# EAGLE library part BOB_LM3S3836_OVAL (library CEDTv60)
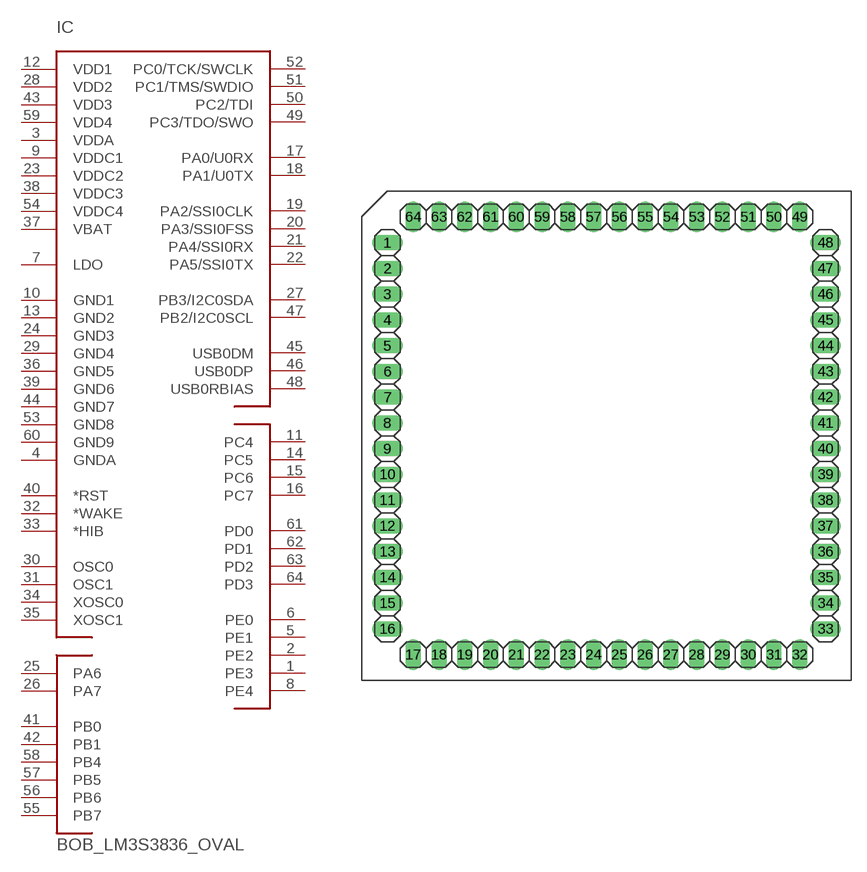
[diagram p51: symbol with the pads of BOB_LQFP64_OVAL; footprint BOB_LQFP64_OVAL]

Designator prefix IC

## BOB_LM3S3836_OVAL  [BOB_LQFP64_OVAL]
1  PE3  pas
2  PE2  pas
3  VDDA  pas
4  GNDA  pas
5  PE1  pas
6  PE0  pas
7  LDO  pas
8  PE4  pas
9  VDDC1  pas
10  GND1  pas
11  PC4  pas
12  VDD1  pas
13  GND2  pas
14  PC5  pas
15  PC6  pas
16  PC7  pas
17  PA0/U0RX  pas
18  PA1/U0TX  pas
19  PA2/SSI0CLK  pas
20  PA3/SSI0FSS  pas
21  PA4/SSI0RX  pas
22  PA5/SSI0TX  pas
23  VDDC2  pas
24  GND3  pas
25  PA6  pas
26  PA7  pas
27  PB3/I2C0SDA  pas
28  VDD2  pas
29  GND4  pas
30  OSC0  pas
31  OSC1  pas
32  *WAKE  pas
33  *HIB  pas
34  XOSC0  pas
35  XOSC1  pas
36  GND5  pas
37  VBAT  pas
38  VDDC3  pas
39  GND6  pas
40  *RST  pas
41  PB0  pas
42  PB1  pas
43  VDD3  pas
44  GND7  pas
45  USB0DM  pas
46  USB0DP  pas
47  PB2/I2C0SCL  pas
48  USB0RBIAS  pas
49  PC3/TDO/SWO  pas
50  PC2/TDI  pas
51  PC1/TMS/SWDIO  pas
52  PC0/TCK/SWCLK  pas
53  GND8  pas
54  VDDC4  pas
55  PB7  pas
56  PB6  pas
57  PB5  pas
58  PB4  pas
59  VDD4  pas
60  GND9  pas
61  PD0  pas
62  PD1  pas
63  PD2  pas
64  PD3  pas

## Footprint BOB_LQFP64_OVAL (pad centres in mm)
drill 1.016 long: 1 -21.59,19.05; 2 -21.59,16.51; 3 -21.59,13.97; 4 -21.59,11.43; 5 -21.59,8.89; 6 -21.59,6.35; 7 -21.59,3.81; 8 -21.59,1.27; 9 -21.59,-1.27; 10 -21.59,-3.81; 11 -21.59,-6.35; 12 -21.59,-8.89; 13 -21.59,-11.43; 14 -21.59,-13.97; 15 -21.59,-16.51; 16 -21.59,-19.05; 17 -19.05,-21.59; 18 -16.51,-21.59; 19 -13.97,-21.59; 20 -11.43,-21.59; 21 -8.89,-21.59; 22 -6.35,-21.59; 23 -3.81,-21.59; 24 -1.27,-21.59; 25 1.27,-21.59; 26 3.81,-21.59; 27 6.35,-21.59; 28 8.89,-21.59; 29 11.43,-21.59; 30 13.97,-21.59; 31 16.51,-21.59; 32 19.05,-21.59; 33 21.59,-19.05; 34 21.59,-16.51; 35 21.59,-13.97; 36 21.59,-11.43; 37 21.59,-8.89; 38 21.59,-6.35; 39 21.59,-3.81; 40 21.59,-1.27; 41 21.59,1.27; 42 21.59,3.81; 43 21.59,6.35; 44 21.59,8.89; 45 21.59,11.43; 46 21.59,13.97; 47 21.59,16.51; 48 21.59,19.05; 49 19.05,21.59; 50 16.51,21.59; 51 13.97,21.59; 52 11.43,21.59; 53 8.89,21.59; 54 6.35,21.59; 55 3.81,21.59; 56 1.27,21.59; 57 -1.27,21.59; 58 -3.81,21.59; 59 -6.35,21.59; 60 -8.89,21.59; 61 -11.43,21.59; 62 -13.97,21.59; 63 -16.51,21.59; 64 -19.05,21.59